# Altium integrated library National Semiconductor OtherParts.IntLib: 205 symbols (part 6 of 7)
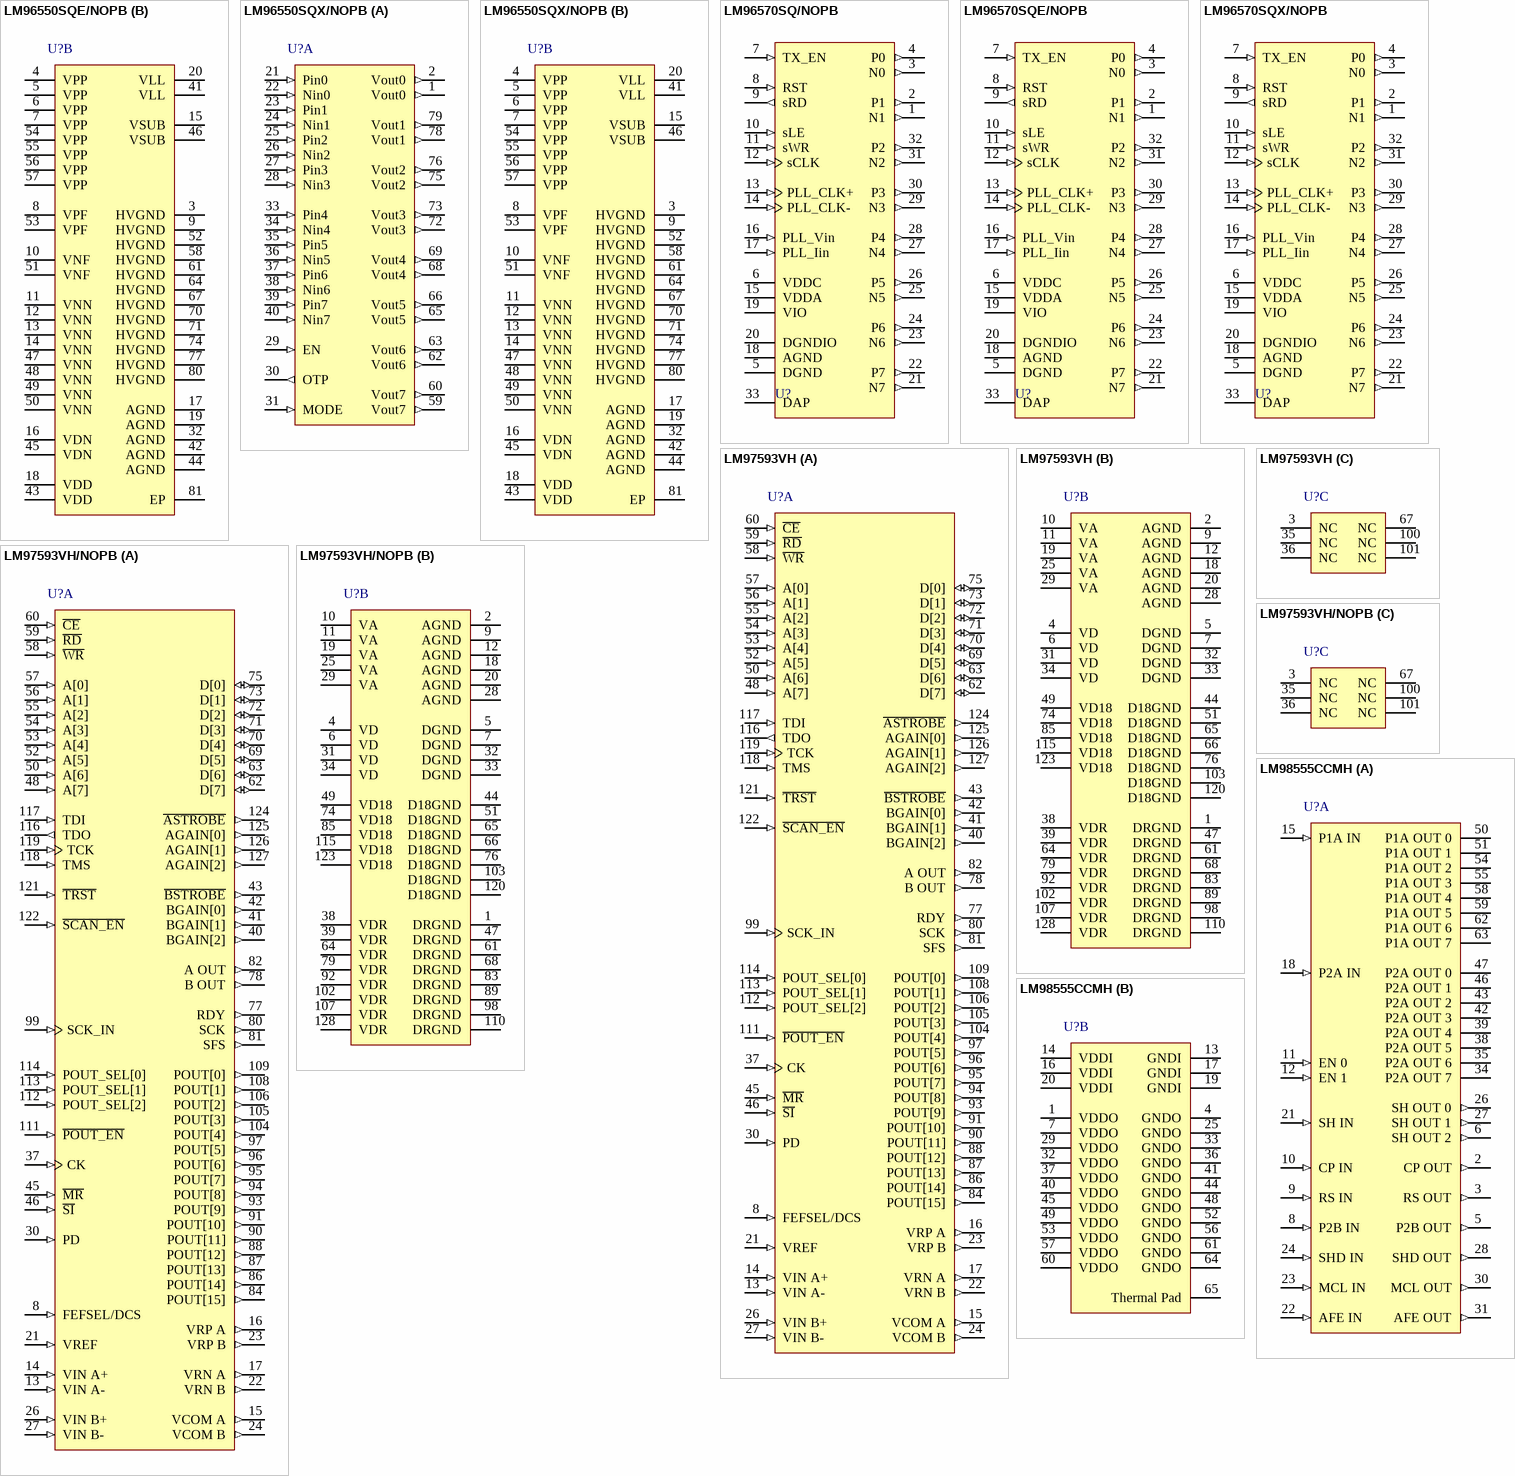
[diagram p17: symbols LM96550SQE/NOPB to LM98555CCMH]

## LM98555CCMH
designator U?
CCD Driver, 64-pin TSSOP-EP; PartNumber: LM98555CCMH; Manufacturer: National Semiconductor; PackageTopMarking: THHD*XTT; PowerWise: N; CompType: OtherParts; High-Reliability: Y; DatasheetVersion: Aug-2007; PackageVersion: revA, Feb-2004; PackageReference: MXD64A; PackageDescription: Molded TSSOP, JEDEC, 17 x 6.1 x 0.9mm Body, 64 Lead, 0.5mm Pitch, Exposed Pad; RoHS: Y; PinCount: 65; Code_JEDEC: MO-153-EFT; ComponentLink1Description: Manufacturer URL; ComponentLink1URL: http://www.national.com/; ComponentLink2Description: LM98555 Datasheet; ComponentLink2URL: http://www.national.com/ds/LM/LM98555.pdf; ComponentLink3Description: LM98555 Web Page; ComponentLink3URL: http://www.national.com/pf/LM/LM98555.html; ComponentLink4Description: MXD64A Package Page; ComponentLink4URL: http://www.national.com/packaging/folders/mxd64a.html
footprint MXD64A_N (TSSOP, 64-Leads, Body 17x6.1mm, Pitch 0.5mm, Exposed Pad, IPC Medium Density)
footprint MXD64A_L (TSSOP, 64-Leads, Body 17x6.1mm, Pitch 0.5mm, Exposed Pad, IPC High Density)
footprint MXD64A_M (TSSOP, 64-Leads, Body 17x6.1mm, Pitch 0.5mm, Exposed Pad, IPC Low Density)
part A pins: 2 CP OUT (out), 3 RS OUT (out), 5 P2B OUT (out), 6 SH OUT 2 (out), 8 P2B IN (in), 9 RS IN (in), 10 CP IN (in), 11 EN 0 (in), 12 EN 1 (in), 15 P1A IN (in), 18 P2A IN (in), 21 SH IN (in), 22 AFE IN (in), 23 MCL IN (in), 24 SHD IN (in), 26 SH OUT 0 (out), 27 SH OUT 1 (out), 28 SHD OUT (out), 30 MCL OUT (out), 31 AFE OUT (out), 34 P2A OUT 7 (hiz), 35 P2A OUT 6 (hiz), 38 P2A OUT 5 (hiz), 39 P2A OUT 4 (hiz), 42 P2A OUT 3 (hiz), 43 P2A OUT 2 (hiz), 46 P2A OUT 1 (hiz), 47 P2A OUT 0 (hiz), 50 P1A OUT 0 (hiz), 51 P1A OUT 1 (hiz), 54 P1A OUT 2 (hiz), 55 P1A OUT 3 (hiz), 58 P1A OUT 4 (hiz), 59 P1A OUT 5 (hiz), 62 P1A OUT 6 (hiz), 63 P1A OUT 7 (hiz)
part B pins: 1 VDDO (power), 4 GNDO (power), 7 VDDO (power), 13 GNDI (power), 14 VDDI (power), 16 VDDI (power), 17 GNDI (power), 19 GNDI (power), 20 VDDI (power), 25 GNDO (power), 29 VDDO (power), 32 VDDO (power), 33 GNDO (power), 36 GNDO (power), 37 VDDO (power), 40 VDDO (power), 41 GNDO (power), 44 GNDO (power), 45 VDDO (power), 48 GNDO (power), 49 VDDO (power), 52 GNDO (power), 53 VDDO (power), 56 GNDO (power), 57 VDDO (power), 60 VDDO (power), 61 GNDO (power), 64 GNDO (power), 65 Thermal Pad (power)

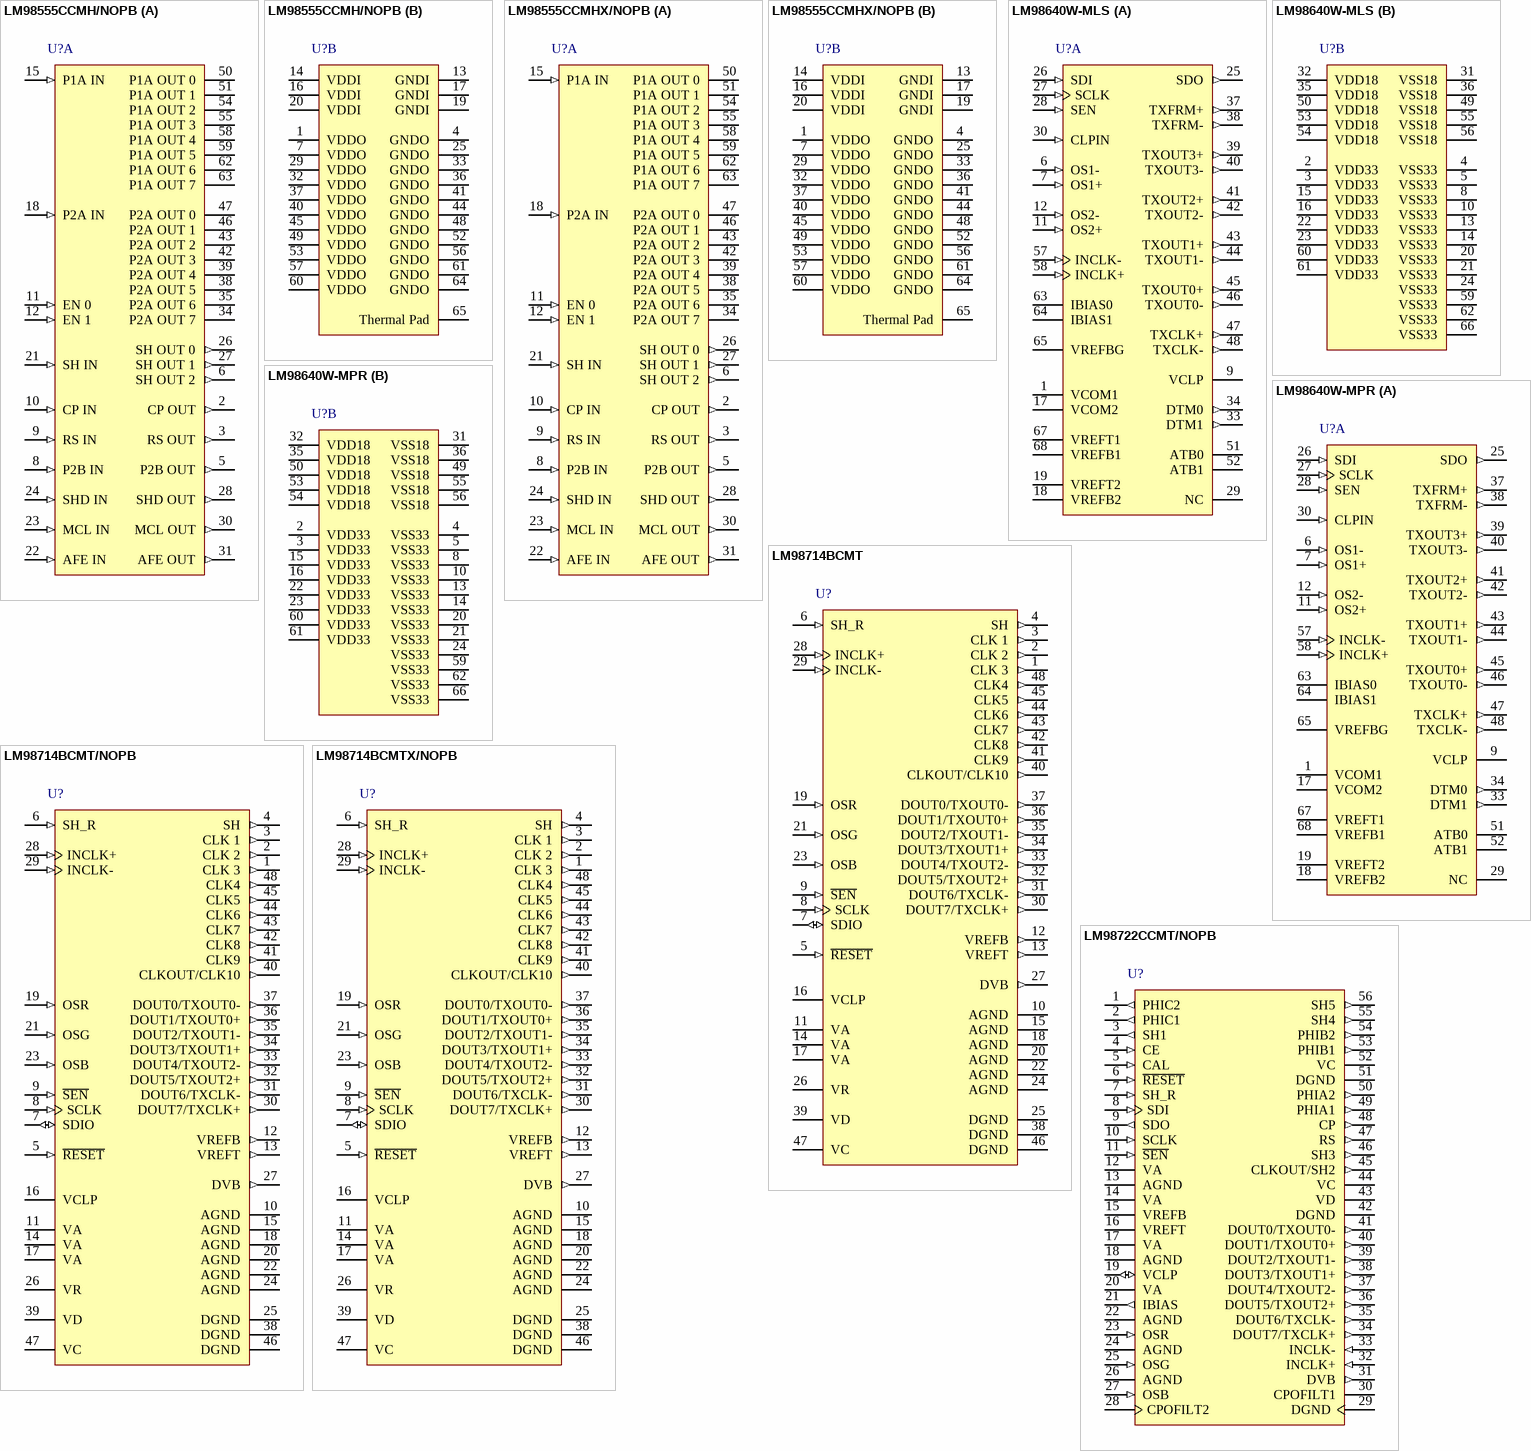
[diagram p10: symbols LM98555CCMH/NOPB to LM98722CCMT/NOPB]

## LM98555CCMH/NOPB
designator U?
CCD Driver, 64-pin TSSOP-EP, Pb-Free; PartNumber: LM98555CCMH/NOPB; Manufacturer: National Semiconductor; PackageTopMarking: NSUZXYTTE#*LM98555*CCMH; PowerWise: N; CompType: OtherParts; High-Reliability: Y; DatasheetVersion: Aug-2007; PackageVersion: revA, Feb-2004; PackageReference: MXD64A; PackageDescription: Molded TSSOP, JEDEC, 17 x 6.1 x 0.9mm Body, 64 Lead, 0.5mm Pitch, Exposed Pad; RoHS: Y; PinCount: 64; Code_JEDEC: MO-153-EFT; ComponentLink1Description: Manufacturer URL; ComponentLink1URL: http://www.national.com/; ComponentLink2Description: LM98555 Datasheet; ComponentLink2URL: http://www.national.com/ds/LM/LM98555.pdf; ComponentLink3Description: LM98555 Web Page; ComponentLink3URL: http://www.national.com/pf/LM/LM98555.html; ComponentLink4Description: MXD64A Package Page; ComponentLink4URL: http://www.national.com/packaging/folders/mxd64a.html
footprint MXD64A_N (TSSOP, 64-Leads, Body 17x6.1mm, Pitch 0.5mm, Exposed Pad, IPC Medium Density)
footprint MXD64A_L (TSSOP, 64-Leads, Body 17x6.1mm, Pitch 0.5mm, Exposed Pad, IPC High Density)
footprint MXD64A_M (TSSOP, 64-Leads, Body 17x6.1mm, Pitch 0.5mm, Exposed Pad, IPC Low Density)
part A pins: 2 CP OUT (out), 3 RS OUT (out), 5 P2B OUT (out), 6 SH OUT 2 (out), 8 P2B IN (in), 9 RS IN (in), 10 CP IN (in), 11 EN 0 (in), 12 EN 1 (in), 15 P1A IN (in), 18 P2A IN (in), 21 SH IN (in), 22 AFE IN (in), 23 MCL IN (in), 24 SHD IN (in), 26 SH OUT 0 (out), 27 SH OUT 1 (out), 28 SHD OUT (out), 30 MCL OUT (out), 31 AFE OUT (out), 34 P2A OUT 7 (hiz), 35 P2A OUT 6 (hiz), 38 P2A OUT 5 (hiz), 39 P2A OUT 4 (hiz), 42 P2A OUT 3 (hiz), 43 P2A OUT 2 (hiz), 46 P2A OUT 1 (hiz), 47 P2A OUT 0 (hiz), 50 P1A OUT 0 (hiz), 51 P1A OUT 1 (hiz), 54 P1A OUT 2 (hiz), 55 P1A OUT 3 (hiz), 58 P1A OUT 4 (hiz), 59 P1A OUT 5 (hiz), 62 P1A OUT 6 (hiz), 63 P1A OUT 7 (hiz)
part B pins: 1 VDDO (power), 4 GNDO (power), 7 VDDO (power), 13 GNDI (power), 14 VDDI (power), 16 VDDI (power), 17 GNDI (power), 19 GNDI (power), 20 VDDI (power), 25 GNDO (power), 29 VDDO (power), 32 VDDO (power), 33 GNDO (power), 36 GNDO (power), 37 VDDO (power), 40 VDDO (power), 41 GNDO (power), 44 GNDO (power), 45 VDDO (power), 48 GNDO (power), 49 VDDO (power), 52 GNDO (power), 53 VDDO (power), 56 GNDO (power), 57 VDDO (power), 60 VDDO (power), 61 GNDO (power), 64 GNDO (power), 65 Thermal Pad (power)

## LM98555CCMHX/NOPB
designator U?
CCD Driver, 64-pin TSSOP-EP, Pb-Free; PartNumber: LM98555CCMHX/NOPB; Manufacturer: National Semiconductor; PackageTopMarking: NSUZXYTTE#*LM98555*CCMH; PowerWise: N; CompType: OtherParts; High-Reliability: Y; DatasheetVersion: Aug-2007; PackageVersion: revA, Feb-2004; PackageReference: MXD64A; PackageDescription: Molded TSSOP, JEDEC, 17 x 6.1 x 0.9mm Body, 64 Lead, 0.5mm Pitch, Exposed Pad; RoHS: Y; PinCount: 64; Code_JEDEC: MO-153-EFT; ComponentLink1Description: Manufacturer URL; ComponentLink1URL: http://www.national.com/; ComponentLink2Description: LM98555 Datasheet; ComponentLink2URL: http://www.national.com/ds/LM/LM98555.pdf; ComponentLink3Description: LM98555 Web Page; ComponentLink3URL: http://www.national.com/pf/LM/LM98555.html; ComponentLink4Description: MXD64A Package Page; ComponentLink4URL: http://www.national.com/packaging/folders/mxd64a.html
footprint MXD64A_N (TSSOP, 64-Leads, Body 17x6.1mm, Pitch 0.5mm, Exposed Pad, IPC Medium Density)
footprint MXD64A_L (TSSOP, 64-Leads, Body 17x6.1mm, Pitch 0.5mm, Exposed Pad, IPC High Density)
footprint MXD64A_M (TSSOP, 64-Leads, Body 17x6.1mm, Pitch 0.5mm, Exposed Pad, IPC Low Density)
part A pins: 2 CP OUT (out), 3 RS OUT (out), 5 P2B OUT (out), 6 SH OUT 2 (out), 8 P2B IN (in), 9 RS IN (in), 10 CP IN (in), 11 EN 0 (in), 12 EN 1 (in), 15 P1A IN (in), 18 P2A IN (in), 21 SH IN (in), 22 AFE IN (in), 23 MCL IN (in), 24 SHD IN (in), 26 SH OUT 0 (out), 27 SH OUT 1 (out), 28 SHD OUT (out), 30 MCL OUT (out), 31 AFE OUT (out), 34 P2A OUT 7 (hiz), 35 P2A OUT 6 (hiz), 38 P2A OUT 5 (hiz), 39 P2A OUT 4 (hiz), 42 P2A OUT 3 (hiz), 43 P2A OUT 2 (hiz), 46 P2A OUT 1 (hiz), 47 P2A OUT 0 (hiz), 50 P1A OUT 0 (hiz), 51 P1A OUT 1 (hiz), 54 P1A OUT 2 (hiz), 55 P1A OUT 3 (hiz), 58 P1A OUT 4 (hiz), 59 P1A OUT 5 (hiz), 62 P1A OUT 6 (hiz), 63 P1A OUT 7 (hiz)
part B pins: 1 VDDO (power), 4 GNDO (power), 7 VDDO (power), 13 GNDI (power), 14 VDDI (power), 16 VDDI (power), 17 GNDI (power), 19 GNDI (power), 20 VDDI (power), 25 GNDO (power), 29 VDDO (power), 32 VDDO (power), 33 GNDO (power), 36 GNDO (power), 37 VDDO (power), 40 VDDO (power), 41 GNDO (power), 44 GNDO (power), 45 VDDO (power), 48 GNDO (power), 49 VDDO (power), 52 GNDO (power), 53 VDDO (power), 56 GNDO (power), 57 VDDO (power), 60 VDDO (power), 61 GNDO (power), 64 GNDO (power), 65 Thermal Pad (power)

## LM98640W-MLS
designator U?
Dual Channel, 14-Bit, 40 MSPS Analog Front End with LVDS Output, 68 pin CQFP; PartNumber: LM98640W-MLS; Manufacturer: National Semiconductor; PackageTopMarking: NSZSSXXYYA*LM98640W-MLS; PowerWise: N; CompType: OtherParts; High-Reliability: Y; DatasheetVersion: May-2010; PackageVersion: revB, Jul-2009; PackageReference: EL68D; PackageDescription: 68-Lead Ceramic Quad Flat Pack, 24.13 x 24.13 x 3.10 mm Body, 1.27 mm Pitch (CQFP); RoHS: N; PinCount: 68; ComponentLink1Description: Manufacturer URL; ComponentLink1URL: http://www.national.com/; ComponentLink2Description: LM98640QML Datasheet; ComponentLink2URL: http://www.national.com/ds/LM/LM98640QML.pdf; ComponentLink3Description: LM98640QML Web Page; ComponentLink3URL: http://www.national.com/pf/LM/LM98640QML.html; ComponentLink4Description: EL68D Package Page; ComponentLink4URL: http://www.national.com/packaging/folders/el68d.html
footprint EL68D_N (CQFP, 68-Leads, Body 24.1x24.1mm; Pitch 1.27mm, Gullwing Leadform, IPC Medium Density)
footprint EL68D_L (CQFP, 68-Leads, Body 24.1x24.1mm; Pitch 1.27mm, Gullwing Leadform, IPC High Density)
footprint EL68D_M (CQFP, 68-Leads, Body 24.1x24.1mm; Pitch 1.27mm, Gullwing Leadform, IPC Low Density)
part A pins: 1 VCOM1, 6 OS1- (in), 7 OS1+ (in), 9 VCLP, 11 OS2+ (in), 12 OS2- (in), 17 VCOM2, 18 VREFB2, 19 VREFT2, 25 SDO (out), 26 SDI (in), 27 SCLK (in), 28 SEN (in), 29 NC, 30 CLPIN (in), 33 DTM1 (out), 34 DTM0 (out), 37 TXFRM+ (out), 38 TXFRM- (out), 39 TXOUT3+ (out), 40 TXOUT3- (out), 41 TXOUT2+ (out), 42 TXOUT2- (out), 43 TXOUT1+ (out), 44 TXOUT1- (out), 45 TXOUT0+ (out), 46 TXOUT0- (out), 47 TXCLK+ (out), 48 TXCLK- (out), 51 ATB0, 52 ATB1, 57 INCLK- (in), 58 INCLK+ (in), 63 IBIAS0, 64 IBIAS1, 65 VREFBG, 67 VREFT1, 68 VREFB1
part B pins: 2 VDD33 (power), 3 VDD33 (power), 4 VSS33 (power), 5 VSS33 (power), 8 VSS33 (power), 10 VSS33 (power), 13 VSS33 (power), 14 VSS33 (power), 15 VDD33 (power), 16 VDD33 (power), 20 VSS33 (power), 21 VSS33 (power), 22 VDD33 (power), 23 VDD33 (power), 24 VSS33 (power), 31 VSS18 (power), 32 VDD18 (power), 35 VDD18 (power), 36 VSS18 (power), 49 VSS18 (power), 50 VDD18 (power), 53 VDD18 (power), 54 VDD18 (power), 55 VSS18 (power), 56 VSS18 (power), 59 VSS33 (power), 60 VDD33 (power), 61 VDD33 (power), 62 VSS33 (power), 66 VSS33 (power)

## LM98640W-MPR
designator U?
Dual Channel, 14-Bit, 40 MSPS Analog Front End with LVDS Output, 68 pin CQFP; PartNumber: LM98640W-MPR; Manufacturer: National Semiconductor; PackageTopMarking: NSZSSXXYYA*LM98640W*-MPR ES; PowerWise: N; CompType: OtherParts; High-Reliability: Y; DatasheetVersion: May-2010; PackageVersion: revB, Jul-2009; PackageReference: EL68D; PackageDescription: 68-Lead Ceramic Quad Flat Pack, 24.13 x 24.13 x 3.10 mm Body, 1.27 mm Pitch (CQFP); RoHS: N; PinCount: 68; ComponentLink1Description: Manufacturer URL; ComponentLink1URL: http://www.national.com/; ComponentLink2Description: LM98640QML Datasheet; ComponentLink2URL: http://www.national.com/ds/LM/LM98640QML.pdf; ComponentLink3Description: LM98640QML Web Page; ComponentLink3URL: http://www.national.com/pf/LM/LM98640QML.html; ComponentLink4Description: EL68D Package Page; ComponentLink4URL: http://www.national.com/packaging/folders/el68d.html
footprint EL68D_N (CQFP, 68-Leads, Body 24.1x24.1mm; Pitch 1.27mm, Gullwing Leadform, IPC Medium Density)
footprint EL68D_L (CQFP, 68-Leads, Body 24.1x24.1mm; Pitch 1.27mm, Gullwing Leadform, IPC High Density)
footprint EL68D_M (CQFP, 68-Leads, Body 24.1x24.1mm; Pitch 1.27mm, Gullwing Leadform, IPC Low Density)
part A pins: 1 VCOM1, 6 OS1- (in), 7 OS1+ (in), 9 VCLP, 11 OS2+ (in), 12 OS2- (in), 17 VCOM2, 18 VREFB2, 19 VREFT2, 25 SDO (out), 26 SDI (in), 27 SCLK (in), 28 SEN (in), 29 NC, 30 CLPIN (in), 33 DTM1 (out), 34 DTM0 (out), 37 TXFRM+ (out), 38 TXFRM- (out), 39 TXOUT3+ (out), 40 TXOUT3- (out), 41 TXOUT2+ (out), 42 TXOUT2- (out), 43 TXOUT1+ (out), 44 TXOUT1- (out), 45 TXOUT0+ (out), 46 TXOUT0- (out), 47 TXCLK+ (out), 48 TXCLK- (out), 51 ATB0, 52 ATB1, 57 INCLK- (in), 58 INCLK+ (in), 63 IBIAS0, 64 IBIAS1, 65 VREFBG, 67 VREFT1, 68 VREFB1
part B pins: 2 VDD33 (power), 3 VDD33 (power), 4 VSS33 (power), 5 VSS33 (power), 8 VSS33 (power), 10 VSS33 (power), 13 VSS33 (power), 14 VSS33 (power), 15 VDD33 (power), 16 VDD33 (power), 20 VSS33 (power), 21 VSS33 (power), 22 VDD33 (power), 23 VDD33 (power), 24 VSS33 (power), 31 VSS18 (power), 32 VDD18 (power), 35 VDD18 (power), 36 VSS18 (power), 49 VSS18 (power), 50 VDD18 (power), 53 VDD18 (power), 54 VDD18 (power), 55 VSS18 (power), 56 VSS18 (power), 59 VSS33 (power), 60 VDD33 (power), 61 VDD33 (power), 62 VSS33 (power), 66 VSS33 (power)

## LM98714BCMT
designator U?
Three Channel, 16-Bit, 45 MSPS Digital Copier Analog Front End with Integrated CCD/CIS Sensor Timing Generator and LVDS Output, 48-pin TSSOP; PartNumber: LM98714BCMT; Manufacturer: National Semiconductor; PackageTopMarking: THHD*XTT; PowerWise: N; CompType: OtherParts; High-Reliability: Y; DatasheetVersion: Oct-2006; PackageVersion: revE, Apr-2003; PackageReference: MTD48; PackageDescription: Molded TSSOP, Jedec, 12.5 x 6.1 x 0.9mm Body, 48 Lead, 0.50mm Pitch; RoHS: Y; PinCount: 48; Code_JEDEC: MO-153-ED; ComponentLink1Description: Manufacturer URL; ComponentLink1URL: http://www.national.com/; ComponentLink2Description: LM98714 Datasheet; ComponentLink2URL: http://www.national.com/ds/LM/LM98714.pdf; ComponentLink3Description: LM98714 Web Page; ComponentLink3URL: http://www.national.com/pf/LM/LM98714.html; ComponentLink4Description: MTD48 Package Page; ComponentLink4URL: http://www.national.com/packaging/folders/mtd48.html
footprint MTD48_N (TSSOP, 48-Leads, Body 12.5x6.1mm, Pitch 0.5mm, IPC Medium Density)
footprint MTD48_L (TSSOP, 48-Leads, Body 12.5x6.1mm, Pitch 0.5mm, IPC High Density)
footprint MTD48_M (TSSOP, 48-Leads, Body 12.5x6.1mm, Pitch 0.5mm, IPC Low Density)
pins: 1 CLK 3 (out), 2 CLK 2 (out), 3 CLK 1 (out), 4 SH (out), 5 ~{RESET} (in), 6 SH_R (in), 7 SDIO (io), 8 SCLK (in), 9 ~{SEN} (in), 10 AGND (power), 11 VA (power), 12 VREFB (out), 13 VREFT (out), 14 VA (power), 15 AGND (power), 16 VCLP (power), 17 VA (power), 18 AGND (power), 19 OSR (in), 20 AGND (power), 21 OSG (in), 22 AGND (power), 23 OSB (in), 24 AGND (power), 25 DGND (power), 26 VR (power), 27 DVB (out), 28 INCLK+ (in), 29 INCLK- (in), 30 DOUT7/TXCLK+ (out), 31 DOUT6/TXCLK- (out), 32 DOUT5/TXOUT2+ (out), 33 DOUT4/TXOUT2- (out), 34 DOUT3/TXOUT1+ (out), 35 DOUT2/TXOUT1- (out), 36 DOUT1/TXOUT0+ (out), 37 DOUT0/TXOUT0- (out), 38 DGND (power), 39 VD (power), 40 CLKOUT/CLK10 (out), 41 CLK9 (out), 42 CLK8 (out), 43 CLK7 (out), 44 CLK6 (out), 45 CLK5 (out), 46 DGND (power), 47 VC (power), 48 CLK4 (out)

## LM98714BCMT/NOPB
designator U?
Three Channel, 16-Bit, 45 MSPS Digital Copier Analog Front End with Integrated CCD/CIS Sensor Timing Generator and LVDS Output, 48-pin TSSOP, Pb-Free; PartNumber: LM98714BCMT/NOPB; Manufacturer: National Semiconductor; PackageTopMarking: NSUZXYTTE#*LM98714*BCMT; PowerWise: N; CompType: OtherParts; High-Reliability: Y; DatasheetVersion: Oct-2006; PackageVersion: revE, Apr-2003; PackageReference: MTD48; PackageDescription: Molded TSSOP, Jedec, 12.5 x 6.1 x 0.9mm Body, 48 Lead, 0.50mm Pitch; RoHS: Y; PinCount: 48; Code_JEDEC: MO-153-ED; ComponentLink1Description: Manufacturer URL; ComponentLink1URL: http://www.national.com/; ComponentLink2Description: LM98714 Datasheet; ComponentLink2URL: http://www.national.com/ds/LM/LM98714.pdf; ComponentLink3Description: LM98714 Web Page; ComponentLink3URL: http://www.national.com/pf/LM/LM98714.html; ComponentLink4Description: MTD48 Package Page; ComponentLink4URL: http://www.national.com/packaging/folders/mtd48.html
footprint MTD48_N (TSSOP, 48-Leads, Body 12.5x6.1mm, Pitch 0.5mm, IPC Medium Density)
footprint MTD48_L (TSSOP, 48-Leads, Body 12.5x6.1mm, Pitch 0.5mm, IPC High Density)
footprint MTD48_M (TSSOP, 48-Leads, Body 12.5x6.1mm, Pitch 0.5mm, IPC Low Density)
pins: 1 CLK 3 (out), 2 CLK 2 (out), 3 CLK 1 (out), 4 SH (out), 5 ~{RESET} (in), 6 SH_R (in), 7 SDIO (io), 8 SCLK (in), 9 ~{SEN} (in), 10 AGND (power), 11 VA (power), 12 VREFB (out), 13 VREFT (out), 14 VA (power), 15 AGND (power), 16 VCLP (power), 17 VA (power), 18 AGND (power), 19 OSR (in), 20 AGND (power), 21 OSG (in), 22 AGND (power), 23 OSB (in), 24 AGND (power), 25 DGND (power), 26 VR (power), 27 DVB (out), 28 INCLK+ (in), 29 INCLK- (in), 30 DOUT7/TXCLK+ (out), 31 DOUT6/TXCLK- (out), 32 DOUT5/TXOUT2+ (out), 33 DOUT4/TXOUT2- (out), 34 DOUT3/TXOUT1+ (out), 35 DOUT2/TXOUT1- (out), 36 DOUT1/TXOUT0+ (out), 37 DOUT0/TXOUT0- (out), 38 DGND (power), 39 VD (power), 40 CLKOUT/CLK10 (out), 41 CLK9 (out), 42 CLK8 (out), 43 CLK7 (out), 44 CLK6 (out), 45 CLK5 (out), 46 DGND (power), 47 VC (power), 48 CLK4 (out)

## LM98714BCMTX/NOPB
designator U?
Three Channel, 16-Bit, 45 MSPS Digital Copier Analog Front End with Integrated CCD/CIS Sensor Timing Generator and LVDS Output, 48-pin TSSOP, Pb-Free; PartNumber: LM98714BCMTX/NOPB; Manufacturer: National Semiconductor; PackageTopMarking: NSUZXYTTE#*LM98714*BCMT; PowerWise: N; CompType: OtherParts; High-Reliability: Y; DatasheetVersion: Oct-2006; PackageVersion: revE, Apr-2003; PackageReference: MTD48; PackageDescription: Molded TSSOP, Jedec, 12.5 x 6.1 x 0.9mm Body, 48 Lead, 0.50mm Pitch; RoHS: Y; PinCount: 48; Code_JEDEC: MO-153-ED; ComponentLink1Description: Manufacturer URL; ComponentLink1URL: http://www.national.com/; ComponentLink2Description: LM98714 Datasheet; ComponentLink2URL: http://www.national.com/ds/LM/LM98714.pdf; ComponentLink3Description: LM98714 Web Page; ComponentLink3URL: http://www.national.com/pf/LM/LM98714.html; ComponentLink4Description: MTD48 Package Page; ComponentLink4URL: http://www.national.com/packaging/folders/mtd48.html
footprint MTD48_N (TSSOP, 48-Leads, Body 12.5x6.1mm, Pitch 0.5mm, IPC Medium Density)
footprint MTD48_L (TSSOP, 48-Leads, Body 12.5x6.1mm, Pitch 0.5mm, IPC High Density)
footprint MTD48_M (TSSOP, 48-Leads, Body 12.5x6.1mm, Pitch 0.5mm, IPC Low Density)
pins: 1 CLK 3 (out), 2 CLK 2 (out), 3 CLK 1 (out), 4 SH (out), 5 ~{RESET} (in), 6 SH_R (in), 7 SDIO (io), 8 SCLK (in), 9 ~{SEN} (in), 10 AGND (power), 11 VA (power), 12 VREFB (out), 13 VREFT (out), 14 VA (power), 15 AGND (power), 16 VCLP (power), 17 VA (power), 18 AGND (power), 19 OSR (in), 20 AGND (power), 21 OSG (in), 22 AGND (power), 23 OSB (in), 24 AGND (power), 25 DGND (power), 26 VR (power), 27 DVB (out), 28 INCLK+ (in), 29 INCLK- (in), 30 DOUT7/TXCLK+ (out), 31 DOUT6/TXCLK- (out), 32 DOUT5/TXOUT2+ (out), 33 DOUT4/TXOUT2- (out), 34 DOUT3/TXOUT1+ (out), 35 DOUT2/TXOUT1- (out), 36 DOUT1/TXOUT0+ (out), 37 DOUT0/TXOUT0- (out), 38 DGND (power), 39 VD (power), 40 CLKOUT/CLK10 (out), 41 CLK9 (out), 42 CLK8 (out), 43 CLK7 (out), 44 CLK6 (out), 45 CLK5 (out), 46 DGND (power), 47 VC (power), 48 CLK4 (out)

## LM98722CCMT/NOPB
designator U?
Three Channel, 16-Bit, 45 MSPS Analog Front End with LVDS/CMOS Output and Integrated CCD/CIS Sensor Timing Generator, 56-pin TSSOP, Pb-Free; PartNumber: LM98722CCMT/NOPB; Manufacturer: National Semiconductor; PackageTopMarking: NSUZXYTTE#*LM98722CCMT; PowerWise: N; CompType: OtherParts; High-Reliability: Y; DatasheetVersion: Sep-2009; PackageVersion: revD, Apr-2003; PackageReference: MTD56; PackageDescription: Molded TSSOP, Jedec, 14 x 6.1 x 0.9mm Body, 56 Lead, 0.50mm Pitch; RoHS: Y; PinCount: 56; Code_IPC: TSSOP50P810-56; ComponentLink1Description: Manufacturer URL; ComponentLink1URL: http://www.national.com/; ComponentLink2Description: LM98722 Datasheet; ComponentLink2URL: http://www.national.com/ds/LM/LM98722.pdf; ComponentLink3Description: LM98722 Web Page; ComponentLink3URL: http://www.national.com/pf/LM/LM98722.html; ComponentLink4Description: MTD56 Package Page; ComponentLink4URL: http://www.national.com/packaging/folders/mtd56.html
footprint MTD56_N (TSSOP, 56-Leads, Body 14x6.1mm, Pitch 0.5mm, IPC Medium Density)
footprint MTD56_L (TSSOP, 56-Leads, Body 14x6.1mm, Pitch 0.5mm, IPC High Density)
footprint MTD56_M (TSSOP, 56-Leads, Body 14x6.1mm, Pitch 0.5mm, IPC Low Density)
pins: 1 PHIC2 (out), 2 PHIC1 (out), 3 SH1 (out), 4 CE (in), 5 CAL (in), 6 ~{RESET} (in), 7 SH_R (in), 8 SDI (in), 9 SDO (out), 10 SCLK (in), 11 ~{SEN} (in), 12 VA (power), 13 AGND (power), 14 VA (power), 15 VREFB (power), 16 VREFT (power), 17 VA (power), 18 AGND (power), 19 VCLP (io), 20 VA (power), 21 IBIAS (out), 22 AGND (power), 23 OSR (in), 24 AGND (power), 25 OSG (in), 26 AGND (power), 27 OSB (in), 28 CPOFILT2, 29 DGND (power), 30 CPOFILT1, 31 DVB (out), 32 INCLK+ (in), 33 INCLK- (in), 34 DOUT7/TXCLK+ (out), 35 DOUT6/TXCLK- (out), 36 DOUT5/TXOUT2+ (out), 37 DOUT4/TXOUT2- (out), 38 DOUT3/TXOUT1+ (out), 39 DOUT2/TXOUT1- (out), 40 DOUT1/TXOUT0+ (out), 41 DOUT0/TXOUT0- (out), 42 DGND (power), 43 VD (power), 44 VC (power), 45 CLKOUT/SH2 (out), 46 SH3 (out), 47 RS (out), 48 CP (out), 49 PHIA1 (out), 50 PHIA2 (out), 51 DGND (power), 52 VC (power), 53 PHIB1 (out), 54 PHIB2 (out), 55 SH4 (out), 56 SH5 (out)

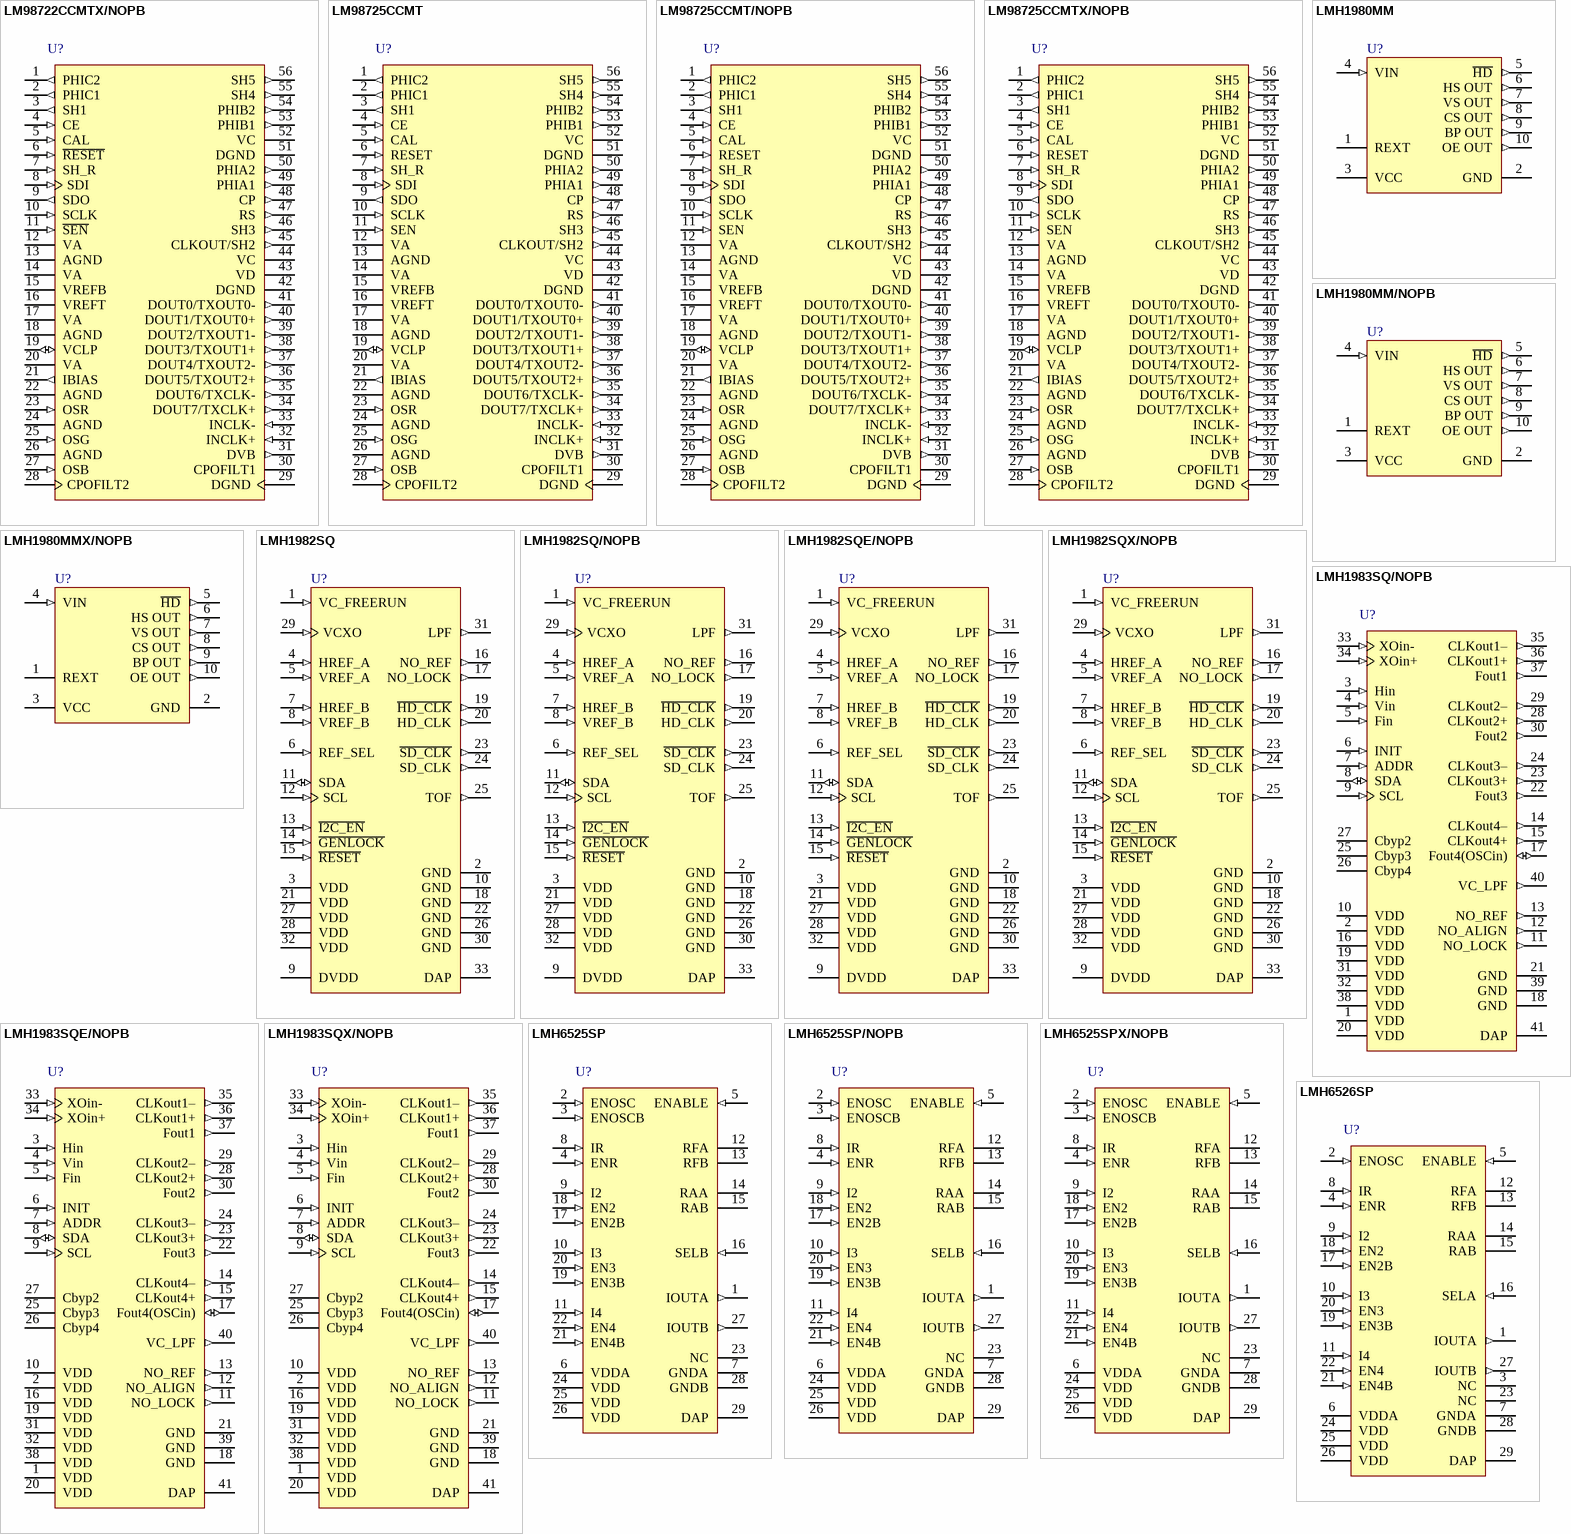
[diagram p11: symbols LM98722CCMTX/NOPB to LMH6526SP]

## LM98722CCMTX/NOPB
designator U?
Three Channel, 16-Bit, 45 MSPS Analog Front End with LVDS/CMOS Output and Integrated CCD/CIS Sensor Timing Generator, 56-pin TSSOP, Pb-Free; PartNumber: LM98722CCMTX/NOPB; Manufacturer: National Semiconductor; PackageTopMarking: NSUZXYTTE#*LM98722CCMT; PowerWise: N; CompType: OtherParts; High-Reliability: Y; DatasheetVersion: Sep-2009; PackageVersion: revD, Apr-2003; PackageReference: MTD56; PackageDescription: Molded TSSOP, Jedec, 14 x 6.1 x 0.9mm Body, 56 Lead, 0.50mm Pitch; RoHS: Y; PinCount: 56; Code_IPC: TSSOP50P810-56; ComponentLink1Description: Manufacturer URL; ComponentLink1URL: http://www.national.com/; ComponentLink2Description: LM98722 Datasheet; ComponentLink2URL: http://www.national.com/ds/LM/LM98722.pdf; ComponentLink3Description: LM98722 Web Page; ComponentLink3URL: http://www.national.com/pf/LM/LM98722.html; ComponentLink4Description: MTD56 Package Page; ComponentLink4URL: http://www.national.com/packaging/folders/mtd56.html
footprint MTD56_N (TSSOP, 56-Leads, Body 14x6.1mm, Pitch 0.5mm, IPC Medium Density)
footprint MTD56_L (TSSOP, 56-Leads, Body 14x6.1mm, Pitch 0.5mm, IPC High Density)
footprint MTD56_M (TSSOP, 56-Leads, Body 14x6.1mm, Pitch 0.5mm, IPC Low Density)
pins: 1 PHIC2 (out), 2 PHIC1 (out), 3 SH1 (out), 4 CE (in), 5 CAL (in), 6 ~{RESET} (in), 7 SH_R (in), 8 SDI (in), 9 SDO (out), 10 SCLK (in), 11 ~{SEN} (in), 12 VA (power), 13 AGND (power), 14 VA (power), 15 VREFB (power), 16 VREFT (power), 17 VA (power), 18 AGND (power), 19 VCLP (io), 20 VA (power), 21 IBIAS (out), 22 AGND (power), 23 OSR (in), 24 AGND (power), 25 OSG (in), 26 AGND (power), 27 OSB (in), 28 CPOFILT2, 29 DGND (power), 30 CPOFILT1, 31 DVB (out), 32 INCLK+ (in), 33 INCLK- (in), 34 DOUT7/TXCLK+ (out), 35 DOUT6/TXCLK- (out), 36 DOUT5/TXOUT2+ (out), 37 DOUT4/TXOUT2- (out), 38 DOUT3/TXOUT1+ (out), 39 DOUT2/TXOUT1- (out), 40 DOUT1/TXOUT0+ (out), 41 DOUT0/TXOUT0- (out), 42 DGND (power), 43 VD (power), 44 VC (power), 45 CLKOUT/SH2 (out), 46 SH3 (out), 47 RS (out), 48 CP (out), 49 PHIA1 (out), 50 PHIA2 (out), 51 DGND (power), 52 VC (power), 53 PHIB1 (out), 54 PHIB2 (out), 55 SH4 (out), 56 SH5 (out)

## LM98725CCMT
designator U?
Three Channel, 16-Bit, 81 MSPS Analog Front End with LVDS/CMOS Output and Integrated CCD/CIS Sensor Timing Generator, 56-pin TSSOP; PartNumber: LM98725CCMT; Manufacturer: National Semiconductor; PackageTopMarking: NSUZXYTT*LM98725CCMT; PowerWise: N; CompType: OtherParts; High-Reliability: Y; DatasheetVersion: Sep-2009; PackageVersion: revD, Apr-2003; PackageReference: MTD56; PackageDescription: Molded TSSOP, Jedec, 14 x 6.1 x 0.9mm Body, 56 Lead, 0.50mm Pitch; RoHS: Y; PinCount: 56; Code_IPC: TSSOP50P810-56; ComponentLink1Description: Manufacturer URL; ComponentLink1URL: http://www.national.com/; ComponentLink2Description: LM98725 Datasheet; ComponentLink2URL: http://www.national.com/ds/LM/LM98725.pdf; ComponentLink3Description: LM98725 Web Page; ComponentLink3URL: http://www.national.com/pf/LM/LM98725.html; ComponentLink4Description: MTD56 Package Page; ComponentLink4URL: http://www.national.com/packaging/folders/mtd56.html
footprint MTD56_N (TSSOP, 56-Leads, Body 14x6.1mm, Pitch 0.5mm, IPC Medium Density)
footprint MTD56_L (TSSOP, 56-Leads, Body 14x6.1mm, Pitch 0.5mm, IPC High Density)
footprint MTD56_M (TSSOP, 56-Leads, Body 14x6.1mm, Pitch 0.5mm, IPC Low Density)
pins: 1 PHIC2 (out), 2 PHIC1 (out), 3 SH1 (out), 4 CE (in), 5 CAL (in), 6 RESET (in), 7 SH_R (in), 8 SDI (in), 9 SDO (out), 10 SCLK (in), 11 SEN (in), 12 VA (power), 13 AGND (power), 14 VA (power), 15 VREFB (power), 16 VREFT (power), 17 VA (power), 18 AGND (power), 19 VCLP (io), 20 VA (power), 21 IBIAS (out), 22 AGND (power), 23 OSR (in), 24 AGND (power), 25 OSG (in), 26 AGND (power), 27 OSB (in), 28 CPOFILT2, 29 DGND (power), 30 CPOFILT1, 31 DVB (out), 32 INCLK+ (in), 33 INCLK- (in), 34 DOUT7/TXCLK+ (out), 35 DOUT6/TXCLK- (out), 36 DOUT5/TXOUT2+ (out), 37 DOUT4/TXOUT2- (out), 38 DOUT3/TXOUT1+ (out), 39 DOUT2/TXOUT1- (out), 40 DOUT1/TXOUT0+ (out), 41 DOUT0/TXOUT0- (out), 42 DGND (power), 43 VD (power), 44 VC (power), 45 CLKOUT/SH2 (out), 46 SH3 (out), 47 RS (out), 48 CP (out), 49 PHIA1 (out), 50 PHIA2 (out), 51 DGND (power), 52 VC (power), 53 PHIB1 (out), 54 PHIB2 (out), 55 SH4 (out), 56 SH5 (out)

## LM98725CCMT/NOPB
designator U?
Three Channel, 16-Bit, 81 MSPS Analog Front End with LVDS/CMOS Output and Integrated CCD/CIS Sensor Timing Generator, 56-pin TSSOP, Pb-Free; PartNumber: LM98725CCMT/NOPB; Manufacturer: National Semiconductor; PackageTopMarking: NSUZXYTTE#*LM98725CCMT; PowerWise: N; CompType: OtherParts; High-Reliability: Y; DatasheetVersion: Sep-2009; PackageVersion: revD, Apr-2003; PackageReference: MTD56; PackageDescription: Molded TSSOP, Jedec, 14 x 6.1 x 0.9mm Body, 56 Lead, 0.50mm Pitch; RoHS: Y; PinCount: 56; Code_IPC: TSSOP50P810-56; ComponentLink1Description: Manufacturer URL; ComponentLink1URL: http://www.national.com/; ComponentLink2Description: LM98725 Datasheet; ComponentLink2URL: http://www.national.com/ds/LM/LM98725.pdf; ComponentLink3Description: LM98725 Web Page; ComponentLink3URL: http://www.national.com/pf/LM/LM98725.html; ComponentLink4Description: MTD56 Package Page; ComponentLink4URL: http://www.national.com/packaging/folders/mtd56.html
footprint MTD56_N (TSSOP, 56-Leads, Body 14x6.1mm, Pitch 0.5mm, IPC Medium Density)
footprint MTD56_L (TSSOP, 56-Leads, Body 14x6.1mm, Pitch 0.5mm, IPC High Density)
footprint MTD56_M (TSSOP, 56-Leads, Body 14x6.1mm, Pitch 0.5mm, IPC Low Density)
pins: 1 PHIC2 (out), 2 PHIC1 (out), 3 SH1 (out), 4 CE (in), 5 CAL (in), 6 RESET (in), 7 SH_R (in), 8 SDI (in), 9 SDO (out), 10 SCLK (in), 11 SEN (in), 12 VA (power), 13 AGND (power), 14 VA (power), 15 VREFB (power), 16 VREFT (power), 17 VA (power), 18 AGND (power), 19 VCLP (io), 20 VA (power), 21 IBIAS (out), 22 AGND (power), 23 OSR (in), 24 AGND (power), 25 OSG (in), 26 AGND (power), 27 OSB (in), 28 CPOFILT2, 29 DGND (power), 30 CPOFILT1, 31 DVB (out), 32 INCLK+ (in), 33 INCLK- (in), 34 DOUT7/TXCLK+ (out), 35 DOUT6/TXCLK- (out), 36 DOUT5/TXOUT2+ (out), 37 DOUT4/TXOUT2- (out), 38 DOUT3/TXOUT1+ (out), 39 DOUT2/TXOUT1- (out), 40 DOUT1/TXOUT0+ (out), 41 DOUT0/TXOUT0- (out), 42 DGND (power), 43 VD (power), 44 VC (power), 45 CLKOUT/SH2 (out), 46 SH3 (out), 47 RS (out), 48 CP (out), 49 PHIA1 (out), 50 PHIA2 (out), 51 DGND (power), 52 VC (power), 53 PHIB1 (out), 54 PHIB2 (out), 55 SH4 (out), 56 SH5 (out)

## LM98725CCMTX/NOPB
designator U?
Three Channel, 16-Bit, 81 MSPS Analog Front End with LVDS/CMOS Output and Integrated CCD/CIS Sensor Timing Generator, 56-pin TSSOP, Pb-Free; PartNumber: LM98725CCMTX/NOPB; Manufacturer: National Semiconductor; PackageTopMarking: NSUZXYTTE#*LM98725CCMT; PowerWise: N; CompType: OtherParts; High-Reliability: Y; DatasheetVersion: Sep-2009; PackageVersion: revD, Apr-2003; PackageReference: MTD56; PackageDescription: Molded TSSOP, Jedec, 14 x 6.1 x 0.9mm Body, 56 Lead, 0.50mm Pitch; RoHS: Y; PinCount: 56; Code_IPC: TSSOP50P810-56; ComponentLink1Description: Manufacturer URL; ComponentLink1URL: http://www.national.com/; ComponentLink2Description: LM98725 Datasheet; ComponentLink2URL: http://www.national.com/ds/LM/LM98725.pdf; ComponentLink3Description: LM98725 Web Page; ComponentLink3URL: http://www.national.com/pf/LM/LM98725.html; ComponentLink4Description: MTD56 Package Page; ComponentLink4URL: http://www.national.com/packaging/folders/mtd56.html
footprint MTD56_N (TSSOP, 56-Leads, Body 14x6.1mm, Pitch 0.5mm, IPC Medium Density)
footprint MTD56_L (TSSOP, 56-Leads, Body 14x6.1mm, Pitch 0.5mm, IPC High Density)
footprint MTD56_M (TSSOP, 56-Leads, Body 14x6.1mm, Pitch 0.5mm, IPC Low Density)
pins: 1 PHIC2 (out), 2 PHIC1 (out), 3 SH1 (out), 4 CE (in), 5 CAL (in), 6 RESET (in), 7 SH_R (in), 8 SDI (in), 9 SDO (out), 10 SCLK (in), 11 SEN (in), 12 VA (power), 13 AGND (power), 14 VA (power), 15 VREFB (power), 16 VREFT (power), 17 VA (power), 18 AGND (power), 19 VCLP (io), 20 VA (power), 21 IBIAS (out), 22 AGND (power), 23 OSR (in), 24 AGND (power), 25 OSG (in), 26 AGND (power), 27 OSB (in), 28 CPOFILT2, 29 DGND (power), 30 CPOFILT1, 31 DVB (out), 32 INCLK+ (in), 33 INCLK- (in), 34 DOUT7/TXCLK+ (out), 35 DOUT6/TXCLK- (out), 36 DOUT5/TXOUT2+ (out), 37 DOUT4/TXOUT2- (out), 38 DOUT3/TXOUT1+ (out), 39 DOUT2/TXOUT1- (out), 40 DOUT1/TXOUT0+ (out), 41 DOUT0/TXOUT0- (out), 42 DGND (power), 43 VD (power), 44 VC (power), 45 CLKOUT/SH2 (out), 46 SH3 (out), 47 RS (out), 48 CP (out), 49 PHIA1 (out), 50 PHIA2 (out), 51 DGND (power), 52 VC (power), 53 PHIB1 (out), 54 PHIB2 (out), 55 SH4 (out), 56 SH5 (out)

## LMH1980MM
designator U?
Auto-Detecting SD/HD/PC Video Sync Separator, 10-pin MSOP; PartNumber: LMH1980MM; Manufacturer: National Semiconductor; PackageTopMarking: ZXTT*AL4A; PowerWise: N; CompType: OtherParts; High-Reliability: Y; DatasheetVersion: Jul-2007; PackageVersion: revB, Jul-2003; PackageReference: MUB10A; PackageDescription: Mini-SO, Molded, .118 x .118 x .034in Body, 10 Lead, .0197in Pitch; RoHS: Y; Pin Count: 10; Code_JEDEC: MO-187-BA; ComponentLink1Description: Manufacturer URL; ComponentLink1URL: http://www.national.com/; ComponentLink2Description: LMH1980 Datasheet; ComponentLink2URL: http://www.national.com/ds/LM/LMH1980.pdf; ComponentLink3Description: LMH1980 Web Page; ComponentLink3URL: http://www.national.com/pf/LM/LMH1980.html; ComponentLink4Description: MUB10A Package Page; ComponentLink4URL: http://www.national.com/packaging/folders/mub10a.html
footprint MUB10A_N (TSSOP, 10-Leads, Body 3x3mm, Pitch 0.5mm, IPC Medium Density)
footprint MUB10A_L (TSSOP, 10-Leads, Body 3x3mm, Pitch 0.5mm, IPC High Density)
footprint MUB10A_M (TSSOP, 10-Leads, Body 3x3mm, Pitch 0.5mm, IPC Low Density)
pins: 1 REXT, 2 GND (power), 3 VCC (power), 4 VIN (in), 5 ~{HD} (out), 6 HS OUT (out), 7 VS OUT (out), 8 CS OUT (out), 9 BP OUT (out), 10 OE OUT (out)

## LMH1980MM/NOPB
designator U?
Auto-Detecting SD/HD/PC Video Sync Separator, 10-pin Mini SOIC, Pb-Free; PartNumber: LMH1980MM/NOPB; Manufacturer: National Semiconductor; PackageTopMarking: ZXTT*AL4A; PowerWise: N; CompType: OtherParts; High-Reliability: Y; DatasheetVersion: Jul-2007; PackageVersion: revB, Jul-2003; PackageReference: MUB10A; PackageDescription: Mini-SO, Molded, .118 x .118 x .034in Body, 10 Lead, .0197in Pitch; RoHS: Y; PinCount: 10; Code_JEDEC: MO-187-BA; ComponentLink1Description: Manufacturer URL; ComponentLink1URL: http://www.national.com/; ComponentLink2Description: LMH1980 Datasheet; ComponentLink2URL: http://www.national.com/ds/LM/LMH1980.pdf; ComponentLink3Description: LMH1980 Web Page; ComponentLink3URL: http://www.national.com/pf/LM/LMH1980.html; ComponentLink4Description: MUB10A Package Page; ComponentLink4URL: http://www.national.com/packaging/folders/mub10a.html
footprint MUB10A_N (TSSOP, 10-Leads, Body 3x3mm, Pitch 0.5mm, IPC Medium Density)
footprint MUB10A_L (TSSOP, 10-Leads, Body 3x3mm, Pitch 0.5mm, IPC High Density)
footprint MUB10A_M (TSSOP, 10-Leads, Body 3x3mm, Pitch 0.5mm, IPC Low Density)
pins: 1 REXT, 2 GND (power), 3 VCC (power), 4 VIN (in), 5 ~{HD} (out), 6 HS OUT (out), 7 VS OUT (out), 8 CS OUT (out), 9 BP OUT (out), 10 OE OUT (out)

## LMH1980MMX/NOPB
designator U?
Auto-Detecting SD/HD/PC Video Sync Separator, 10-pin Mini SOIC, Pb-Free; PartNumber: LMH1980MMX/NOPB; Manufacturer: National Semiconductor; PackageTopMarking: ZXTT*AL4A; PowerWise: N; CompType: OtherParts; High-Reliability: Y; DatasheetVersion: Jul-2007; PackageVersion: revB, Jul-2003; PackageReference: MUB10A; PackageDescription: Mini-SO, Molded, .118 x .118 x .034in Body, 10 Lead, .0197in Pitch; RoHS: Y; PinCount: 10; Code_JEDEC: MO-187-BA; ComponentLink1Description: Manufacturer URL; ComponentLink1URL: http://www.national.com/; ComponentLink2Description: LMH1980 Datasheet; ComponentLink2URL: http://www.national.com/ds/LM/LMH1980.pdf; ComponentLink3Description: LMH1980 Web Page; ComponentLink3URL: http://www.national.com/pf/LM/LMH1980.html; ComponentLink4Description: MUB10A Package Page; ComponentLink4URL: http://www.national.com/packaging/folders/mub10a.html
footprint MUB10A_N (TSSOP, 10-Leads, Body 3x3mm, Pitch 0.5mm, IPC Medium Density)
footprint MUB10A_L (TSSOP, 10-Leads, Body 3x3mm, Pitch 0.5mm, IPC High Density)
footprint MUB10A_M (TSSOP, 10-Leads, Body 3x3mm, Pitch 0.5mm, IPC Low Density)
pins: 1 REXT, 2 GND (power), 3 VCC (power), 4 VIN (in), 5 ~{HD} (out), 6 HS OUT (out), 7 VS OUT (out), 8 CS OUT (out), 9 BP OUT (out), 10 OE OUT (out)

## LMH1982SQ
designator U?
Multi-Rate Video Clock Generator with Genlock, 32-pin LLP; PartNumber: LMH1982SQ; Manufacturer: National Semiconductor; PackageTopMarking: NS*UZXYTT*L1982SQ; PowerWise: N; CompType: OtherParts; High-Reliability: Y; DatasheetVersion: Jul-2008; PackageVersion: revB, Oct-2009; PackageReference: SQA32A; PackageDescription: LLP, Quad, 5 x 5 x 0.8mm, 32 Lead, 0.5mm Pitch, No Pullback 3.1 x 3.1 Exposed Pad; RoHS: Y; Pin Count: 33; ComponentLink1Description: Manufacturer URL; ComponentLink1URL: http://www.national.com/; ComponentLink2Description: LMH1982 Datasheet; ComponentLink2URL: http://www.national.com/ds/LM/LMH1982.pdf; ComponentLink3Description: LMH1982 Web Page; ComponentLink3URL: http://www.national.com/pf/LM/LMH1982.html; ComponentLink4Description: SQA32A Package Page; ComponentLink4URL: http://www.national.com/packaging/folders/sqa32a.html
footprint SQA32A (QFN, 32-Leads, Body 5x5mm, Pitch 0.5mm, Thermal Pad 3.2x3.2mm, NSC Recommended)
pins: 1 VC_FREERUN (in), 2 GND (power), 3 VDD (power), 4 HREF_A (in), 5 VREF_A (in), 6 REF_SEL (in), 7 HREF_B (in), 8 VREF_B (in), 9 DVDD (power), 10 GND (power), 11 SDA (io), 12 SCL (in), 13 ~{I2C_EN} (in), 14 ~{GENLOCK} (in), 15 ~{RESET} (in), 16 NO_REF (out), 17 NO_LOCK (out), 18 GND (power), 19 ~{HD_CLK} (out), 20 HD_CLK (out), 21 VDD (power), 22 GND (power), 23 ~{SD_CLK} (out), 24 SD_CLK (out), 25 TOF (out), 26 GND (power), 27 VDD (power), 28 VDD (power), 29 VCXO (in), 30 GND (power), 31 LPF (out), 32 VDD (power), 33 DAP (power)

## LMH1982SQ/NOPB
designator U?
Multi-Rate Video Clock Generator with Genlock, 32-pin LLP, Pb-Free; PartNumber: LMH1982SQ/NOPB; Manufacturer: National Semiconductor; PackageTopMarking: NS*UZXYTT*L1982SQ; PowerWise: N; CompType: OtherParts; High-Reliability: Y; DatasheetVersion: Jul-2008; PackageVersion: revB, Oct-2009; PackageReference: SQA32A; PackageDescription: LLP, Quad, 5 x 5 x 0.8mm, 32 Lead, 0.5mm Pitch, No Pullback 3.1 x 3.1 Exposed Pad; RoHS: Y; PinCount: 32; ComponentLink1Description: Manufacturer URL; ComponentLink1URL: http://www.national.com/; ComponentLink2Description: LMH1982 Datasheet; ComponentLink2URL: http://www.national.com/ds/LM/LMH1982.pdf; ComponentLink3Description: LMH1982 Web Page; ComponentLink3URL: http://www.national.com/pf/LM/LMH1982.html; ComponentLink4Description: SQA32A Package Page; ComponentLink4URL: http://www.national.com/packaging/folders/sqa32a.html
footprint SQA32A (QFN, 32-Leads, Body 5x5mm, Pitch 0.5mm, Thermal Pad 3.2x3.2mm, NSC Recommended)
pins: 1 VC_FREERUN (in), 2 GND (power), 3 VDD (power), 4 HREF_A (in), 5 VREF_A (in), 6 REF_SEL (in), 7 HREF_B (in), 8 VREF_B (in), 9 DVDD (power), 10 GND (power), 11 SDA (io), 12 SCL (in), 13 ~{I2C_EN} (in), 14 ~{GENLOCK} (in), 15 ~{RESET} (in), 16 NO_REF (out), 17 NO_LOCK (out), 18 GND (power), 19 ~{HD_CLK} (out), 20 HD_CLK (out), 21 VDD (power), 22 GND (power), 23 ~{SD_CLK} (out), 24 SD_CLK (out), 25 TOF (out), 26 GND (power), 27 VDD (power), 28 VDD (power), 29 VCXO (in), 30 GND (power), 31 LPF (out), 32 VDD (power), 33 DAP (power)

## LMH1982SQE/NOPB
designator U?
Multi-Rate Video Clock Generator with Genlock, 32-pin LLP, Pb-Free; PartNumber: LMH1982SQE/NOPB; Manufacturer: National Semiconductor; PackageTopMarking: NS*UZXYTT*L1982SQ; PowerWise: N; CompType: OtherParts; High-Reliability: Y; DatasheetVersion: Jul-2008; PackageVersion: revB, Oct-2009; PackageReference: SQA32A; PackageDescription: LLP, Quad, 5 x 5 x 0.8mm, 32 Lead, 0.5mm Pitch, No Pullback 3.1 x 3.1 Exposed Pad; RoHS: Y; PinCount: 32; ComponentLink1Description: Manufacturer URL; ComponentLink1URL: http://www.national.com/; ComponentLink2Description: LMH1982 Datasheet; ComponentLink2URL: http://www.national.com/ds/LM/LMH1982.pdf; ComponentLink3Description: LMH1982 Web Page; ComponentLink3URL: http://www.national.com/pf/LM/LMH1982.html; ComponentLink4Description: SQA32A Package Page; ComponentLink4URL: http://www.national.com/packaging/folders/sqa32a.html
footprint SQA32A (QFN, 32-Leads, Body 5x5mm, Pitch 0.5mm, Thermal Pad 3.2x3.2mm, NSC Recommended)
pins: 1 VC_FREERUN (in), 2 GND (power), 3 VDD (power), 4 HREF_A (in), 5 VREF_A (in), 6 REF_SEL (in), 7 HREF_B (in), 8 VREF_B (in), 9 DVDD (power), 10 GND (power), 11 SDA (io), 12 SCL (in), 13 ~{I2C_EN} (in), 14 ~{GENLOCK} (in), 15 ~{RESET} (in), 16 NO_REF (out), 17 NO_LOCK (out), 18 GND (power), 19 ~{HD_CLK} (out), 20 HD_CLK (out), 21 VDD (power), 22 GND (power), 23 ~{SD_CLK} (out), 24 SD_CLK (out), 25 TOF (out), 26 GND (power), 27 VDD (power), 28 VDD (power), 29 VCXO (in), 30 GND (power), 31 LPF (out), 32 VDD (power), 33 DAP (power)

## LMH1982SQX/NOPB
designator U?
Multi-Rate Video Clock Generator with Genlock, 32-pin LLP, Pb-Free; PartNumber: LMH1982SQX/NOPB; Manufacturer: National Semiconductor; PackageTopMarking: NS*UZXYTT*L1982SQ; PowerWise: N; CompType: OtherParts; High-Reliability: Y; DatasheetVersion: Jul-2008; PackageVersion: revB, Oct-2009; PackageReference: SQA32A; PackageDescription: LLP, Quad, 5 x 5 x 0.8mm, 32 Lead, 0.5mm Pitch, No Pullback 3.1 x 3.1 Exposed Pad; RoHS: Y; PinCount: 32; ComponentLink1Description: Manufacturer URL; ComponentLink1URL: http://www.national.com/; ComponentLink2Description: LMH1982 Datasheet; ComponentLink2URL: http://www.national.com/ds/LM/LMH1982.pdf; ComponentLink3Description: LMH1982 Web Page; ComponentLink3URL: http://www.national.com/pf/LM/LMH1982.html; ComponentLink4Description: SQA32A Package Page; ComponentLink4URL: http://www.national.com/packaging/folders/sqa32a.html
footprint SQA32A (QFN, 32-Leads, Body 5x5mm, Pitch 0.5mm, Thermal Pad 3.2x3.2mm, NSC Recommended)
pins: 1 VC_FREERUN (in), 2 GND (power), 3 VDD (power), 4 HREF_A (in), 5 VREF_A (in), 6 REF_SEL (in), 7 HREF_B (in), 8 VREF_B (in), 9 DVDD (power), 10 GND (power), 11 SDA (io), 12 SCL (in), 13 ~{I2C_EN} (in), 14 ~{GENLOCK} (in), 15 ~{RESET} (in), 16 NO_REF (out), 17 NO_LOCK (out), 18 GND (power), 19 ~{HD_CLK} (out), 20 HD_CLK (out), 21 VDD (power), 22 GND (power), 23 ~{SD_CLK} (out), 24 SD_CLK (out), 25 TOF (out), 26 GND (power), 27 VDD (power), 28 VDD (power), 29 VCXO (in), 30 GND (power), 31 LPF (out), 32 VDD (power), 33 DAP (power)

## LMH1983SQ/NOPB
designator U?
3G/HD/SD Video Clock Generator with Audio Clock, 40 pin LLP; PartNumber: LMH1983SQ/NOPB; Manufacturer: National Semiconductor; PackageTopMarking: NS*UZXYTTE#*LMH1983; PowerWise: N; CompType: OtherParts; High-Reliability: Y; DatasheetVersion: Jan-2011; PackageVersion: revB, Mar-2004; PackageReference: SQA40A; PackageDescription: LLP, Plastic, Quad, 6 x 6 x 0.8mm Body, 40 Lead, 0.5mm Pitch, No Pullback; RoHS: Y; PinCount: 40; ComponentLink1Description: Manufacturer URL; ComponentLink1URL: http://www.national.com/; ComponentLink2Description: LMH1983 Datasheet; ComponentLink2URL: http://www.national.com/ds/LM/LMH1983.pdf; ComponentLink3Description: LMH1983 Web Page; ComponentLink3URL: http://www.national.com/pf/LM/LMH1983.html; ComponentLink4Description: SQA40A Package Page; ComponentLink4URL: http://www.national.com/packaging/folders/sqa40a.html
footprint SQA40A (QFN, 40-Leads, Body 6x6mm, Pitch 0.5mm, Thermal Pad 4.7x4.7mm, NSC Recommended)
pins: 1 VDD (power), 2 VDD (power), 3 Hin (in), 4 Vin (in), 5 Fin (in), 6 INIT (in), 7 ADDR (in), 8 SDA (io), 9 SCL (in), 10 VDD (power), 11 NO_LOCK (out), 12 NO_ALIGN (out), 13 NO_REF (out), 14 CLKout4– (out), 15 CLKout4+ (out), 16 VDD (power), 17 Fout4(OSCin) (io), 18 GND (power), 19 VDD (power), 20 VDD (power), 21 GND (power), 22 Fout3 (out), 23 CLKout3+ (out), 24 CLKout3– (out), 25 Cbyp3, 26 Cbyp4, 27 Cbyp2, 28 CLKout2+ (out), 29 CLKout2– (out), 30 Fout2 (out), 31 VDD (power), 32 VDD (power), 33 XOin- (in), 34 XOin+ (in), 35 CLKout1– (out), 36 CLKout1+ (out), 37 Fout1 (out), 38 VDD (power), 39 GND (power), 40 VC_LPF (out), 41 DAP (power)

## LMH1983SQE/NOPB
designator U?
3G/HD/SD Video Clock Generator with Audio Clock, 40 pin LLP; PartNumber: LMH1983SQE/NOPB; Manufacturer: National Semiconductor; PackageTopMarking: NS*UZXYTTE#*LMH1983; PowerWise: N; CompType: OtherParts; High-Reliability: Y; DatasheetVersion: Jan-2011; PackageVersion: revB, Mar-2004; PackageReference: SQA40A; PackageDescription: LLP, Plastic, Quad, 6 x 6 x 0.8mm Body, 40 Lead, 0.5mm Pitch, No Pullback; RoHS: Y; PinCount: 40; ComponentLink1Description: Manufacturer URL; ComponentLink1URL: http://www.national.com/; ComponentLink2Description: LMH1983 Datasheet; ComponentLink2URL: http://www.national.com/ds/LM/LMH1983.pdf; ComponentLink3Description: LMH1983 Web Page; ComponentLink3URL: http://www.national.com/pf/LM/LMH1983.html; ComponentLink4Description: SQA40A Package Page; ComponentLink4URL: http://www.national.com/packaging/folders/sqa40a.html
footprint SQA40A (QFN, 40-Leads, Body 6x6mm, Pitch 0.5mm, Thermal Pad 4.7x4.7mm, NSC Recommended)
pins: 1 VDD (power), 2 VDD (power), 3 Hin (in), 4 Vin (in), 5 Fin (in), 6 INIT (in), 7 ADDR (in), 8 SDA (io), 9 SCL (in), 10 VDD (power), 11 NO_LOCK (out), 12 NO_ALIGN (out), 13 NO_REF (out), 14 CLKout4– (out), 15 CLKout4+ (out), 16 VDD (power), 17 Fout4(OSCin) (io), 18 GND (power), 19 VDD (power), 20 VDD (power), 21 GND (power), 22 Fout3 (out), 23 CLKout3+ (out), 24 CLKout3– (out), 25 Cbyp3, 26 Cbyp4, 27 Cbyp2, 28 CLKout2+ (out), 29 CLKout2– (out), 30 Fout2 (out), 31 VDD (power), 32 VDD (power), 33 XOin- (in), 34 XOin+ (in), 35 CLKout1– (out), 36 CLKout1+ (out), 37 Fout1 (out), 38 VDD (power), 39 GND (power), 40 VC_LPF (out), 41 DAP (power)

## LMH1983SQX/NOPB
designator U?
3G/HD/SD Video Clock Generator with Audio Clock, 40-pin LLP, 2500 Reel; PartNumber: LMH1983SQX/NOPB; Manufacturer: National Semiconductor; PackageTopMarking: NS*UZXYTTE#*LMH1983; PowerWise: N; CompType: OtherParts; High-Reliability: Y; DatasheetVersion: Jan-2011; PackageVersion: revB, Mar-2004; PackageReference: SQA40A; PackageDescription: LLP, Plastic, Quad, 6 x 6 x 0.8mm Body, 40 Lead, 0.5mm Pitch, No Pullback; RoHS: Y; PinCount: 40; ComponentLink1Description: Manufacturer URL; ComponentLink1URL: http://www.national.com/; ComponentLink2Description: LMH1983 Datasheet; ComponentLink2URL: http://www.national.com/ds/LM/LMH1983.pdf; ComponentLink3Description: LMH1983 Web Page; ComponentLink3URL: http://www.national.com/pf/LM/LMH1983.html; ComponentLink4Description: SQA40A Package Page; ComponentLink4URL: http://www.national.com/packaging/folders/sqa40a.html
footprint SQA40A (QFN, 40-Leads, Body 6x6mm, Pitch 0.5mm, Thermal Pad 4.7x4.7mm, NSC Recommended)
pins: 1 VDD (power), 2 VDD (power), 3 Hin (in), 4 Vin (in), 5 Fin (in), 6 INIT (in), 7 ADDR (in), 8 SDA (io), 9 SCL (in), 10 VDD (power), 11 NO_LOCK (out), 12 NO_ALIGN (out), 13 NO_REF (out), 14 CLKout4– (out), 15 CLKout4+ (out), 16 VDD (power), 17 Fout4(OSCin) (io), 18 GND (power), 19 VDD (power), 20 VDD (power), 21 GND (power), 22 Fout3 (out), 23 CLKout3+ (out), 24 CLKout3– (out), 25 Cbyp3, 26 Cbyp4, 27 Cbyp2, 28 CLKout2+ (out), 29 CLKout2– (out), 30 Fout2 (out), 31 VDD (power), 32 VDD (power), 33 XOin- (in), 34 XOin+ (in), 35 CLKout1– (out), 36 CLKout1+ (out), 37 Fout1 (out), 38 VDD (power), 39 GND (power), 40 VC_LPF (out), 41 DAP (power)

## LMH6525SP
designator U?
Four-Channel Laser Diode Driver with Dual Output, 29-pin LLP; PartNumber: LMH6525SP; Manufacturer: National Semiconductor; PackageTopMarking: THHD*XTT; PowerWise: N; CompType: OtherParts; High-Reliability: Y; DatasheetVersion: Jun-2005; PackageVersion: revA, Aug-2003; PackageReference: SPA28A; PackageDescription: LLP, Plastic, Quad, 5 x 5 x 0.6mm Body, 28 Lead, 0.5mm Pitch, No Pullback; RoHS: Y; PinCount: 28; Code_JEDEC: MO-220-WHHD-3; ComponentLink1Description: Manufacturer URL; ComponentLink1URL: http://www.national.com/; ComponentLink2Description: LMH6525 Datasheet; ComponentLink2URL: http://www.national.com/ds/LM/LMH6525.pdf; ComponentLink3Description: LMH6525 Web Page; ComponentLink3URL: http://www.national.com/pf/LM/LMH6525.html; ComponentLink4Description: SPA28A Package Page; ComponentLink4URL: http://www.national.com/packaging/folders/spa28a.html
footprint SPA28A (QFN, 28-Leads, Body 5x5mm, Pitch 0.5mm, Thermal Pad 3.7x3.7mm, NSC Recommended)
pins: 1 IOUTA (out), 2 ENOSC (in), 3 ENOSCB (in), 4 ENR (in), 5 ENABLE (in), 6 VDDA (power), 7 GNDA (power), 8 IR (in), 9 I2 (in), 10 I3 (in), 11 I4 (in), 12 RFA, 13 RFB, 14 RAA, 15 RAB, 16 SELB (in), 17 EN2B (in), 18 EN2 (in), 19 EN3B (in), 20 EN3 (in), 21 EN4B (in), 22 EN4 (in), 23 NC, 24 VDD (power), 25 VDD (power), 26 VDD (power), 27 IOUTB (out), 28 GNDB (power), 29 DAP (power)

## LMH6525SP/NOPB
designator U?
Four-Channel Laser Diode Driver with Dual Output, 28-pin LLP, Pb-Free; PartNumber: LMH6525SP/NOPB; Manufacturer: National Semiconductor; PackageTopMarking: NS*UZXYTT*L6525SP; PowerWise: N; CompType: OtherParts; High-Reliability: Y; DatasheetVersion: Jun-2005; PackageVersion: revA, Aug-2003; PackageReference: SPA28A; PackageDescription: LLP, Plastic, Quad, 5 x 5 x 0.6mm Body, 28 Lead, 0.5mm Pitch, No Pullback; RoHS: Y; PinCount: 28; Code_JEDEC: MO-220-WHHD-3; ComponentLink1Description: Manufacturer URL; ComponentLink1URL: http://www.national.com/; ComponentLink2Description: LMH6525 Datasheet; ComponentLink2URL: http://www.national.com/ds/LM/LMH6525.pdf; ComponentLink3Description: LMH6525 Web Page; ComponentLink3URL: http://www.national.com/pf/LM/LMH6525.html; ComponentLink4Description: SPA28A Package Page; ComponentLink4URL: http://www.national.com/packaging/folders/spa28a.html
footprint SPA28A (QFN, 28-Leads, Body 5x5mm, Pitch 0.5mm, Thermal Pad 3.7x3.7mm, NSC Recommended)
pins: 1 IOUTA (out), 2 ENOSC (in), 3 ENOSCB (in), 4 ENR (in), 5 ENABLE (in), 6 VDDA (power), 7 GNDA (power), 8 IR (in), 9 I2 (in), 10 I3 (in), 11 I4 (in), 12 RFA, 13 RFB, 14 RAA, 15 RAB, 16 SELB (in), 17 EN2B (in), 18 EN2 (in), 19 EN3B (in), 20 EN3 (in), 21 EN4B (in), 22 EN4 (in), 23 NC, 24 VDD (power), 25 VDD (power), 26 VDD (power), 27 IOUTB (out), 28 GNDB (power), 29 DAP (power)

## LMH6525SPX/NOPB
designator U?
Four-Channel Laser Diode Driver with Dual Output, 28-pin LLP, Pb-Free; PartNumber: LMH6525SPX/NOPB; Manufacturer: National Semiconductor; PackageTopMarking: NS*UZXYTT*L6525SP; PowerWise: N; CompType: OtherParts; High-Reliability: Y; DatasheetVersion: Jun-2005; PackageVersion: revA, Aug-2003; PackageReference: SPA28A; PackageDescription: LLP, Plastic, Quad, 5 x 5 x 0.6mm Body, 28 Lead, 0.5mm Pitch, No Pullback; RoHS: Y; PinCount: 28; Code_JEDEC: MO-220-WHHD-3; ComponentLink1Description: Manufacturer URL; ComponentLink1URL: http://www.national.com/; ComponentLink2Description: LMH6525 Datasheet; ComponentLink2URL: http://www.national.com/ds/LM/LMH6525.pdf; ComponentLink3Description: LMH6525 Web Page; ComponentLink3URL: http://www.national.com/pf/LM/LMH6525.html; ComponentLink4Description: SPA28A Package Page; ComponentLink4URL: http://www.national.com/packaging/folders/spa28a.html
footprint SPA28A (QFN, 28-Leads, Body 5x5mm, Pitch 0.5mm, Thermal Pad 3.7x3.7mm, NSC Recommended)
pins: 1 IOUTA (out), 2 ENOSC (in), 3 ENOSCB (in), 4 ENR (in), 5 ENABLE (in), 6 VDDA (power), 7 GNDA (power), 8 IR (in), 9 I2 (in), 10 I3 (in), 11 I4 (in), 12 RFA, 13 RFB, 14 RAA, 15 RAB, 16 SELB (in), 17 EN2B (in), 18 EN2 (in), 19 EN3B (in), 20 EN3 (in), 21 EN4B (in), 22 EN4 (in), 23 NC, 24 VDD (power), 25 VDD (power), 26 VDD (power), 27 IOUTB (out), 28 GNDB (power), 29 DAP (power)

## LMH6526SP
designator U?
Four-Channel Laser Diode Driver with Dual Output, 29-pin LLP; PartNumber: LMH6526SP; Manufacturer: National Semiconductor; PackageTopMarking: THHD*XTT; PowerWise: N; CompType: OtherParts; High-Reliability: Y; DatasheetVersion: Jun-2005; PackageVersion: revA, Aug-2003; PackageReference: SPA28A; PackageDescription: LLP, Plastic, Quad, 5 x 5 x 0.6mm Body, 28 Lead, 0.5mm Pitch, No Pullback; RoHS: Y; PinCount: 28; Code_JEDEC: MO-220-WHHD-3; ComponentLink1Description: Manufacturer URL; ComponentLink1URL: http://www.national.com/; ComponentLink2Description: LMH6526 Datasheet; ComponentLink2URL: http://www.national.com/ds/LM/LMH6526.pdf; ComponentLink3Description: LMH6526 Web Page; ComponentLink3URL: http://www.national.com/pf/LM/LMH6526.html; ComponentLink4Description: SPA28A Package Page; ComponentLink4URL: http://www.national.com/packaging/folders/spa28a.html
footprint SPA28A (QFN, 28-Leads, Body 5x5mm, Pitch 0.5mm, Thermal Pad 3.7x3.7mm, NSC Recommended)
pins: 1 IOUTA (out), 2 ENOSC (in), 3 NC, 4 ENR (in), 5 ENABLE (in), 6 VDDA (power), 7 GNDA (power), 8 IR (in), 9 I2 (in), 10 I3 (in), 11 I4 (in), 12 RFA, 13 RFB, 14 RAA, 15 RAB, 16 SELA (in), 17 EN2B (in), 18 EN2 (in), 19 EN3B (in), 20 EN3 (in), 21 EN4B (in), 22 EN4 (in), 23 NC, 24 VDD (power), 25 VDD (power), 26 VDD (power), 27 IOUTB (out), 28 GNDB (power), 29 DAP (power)

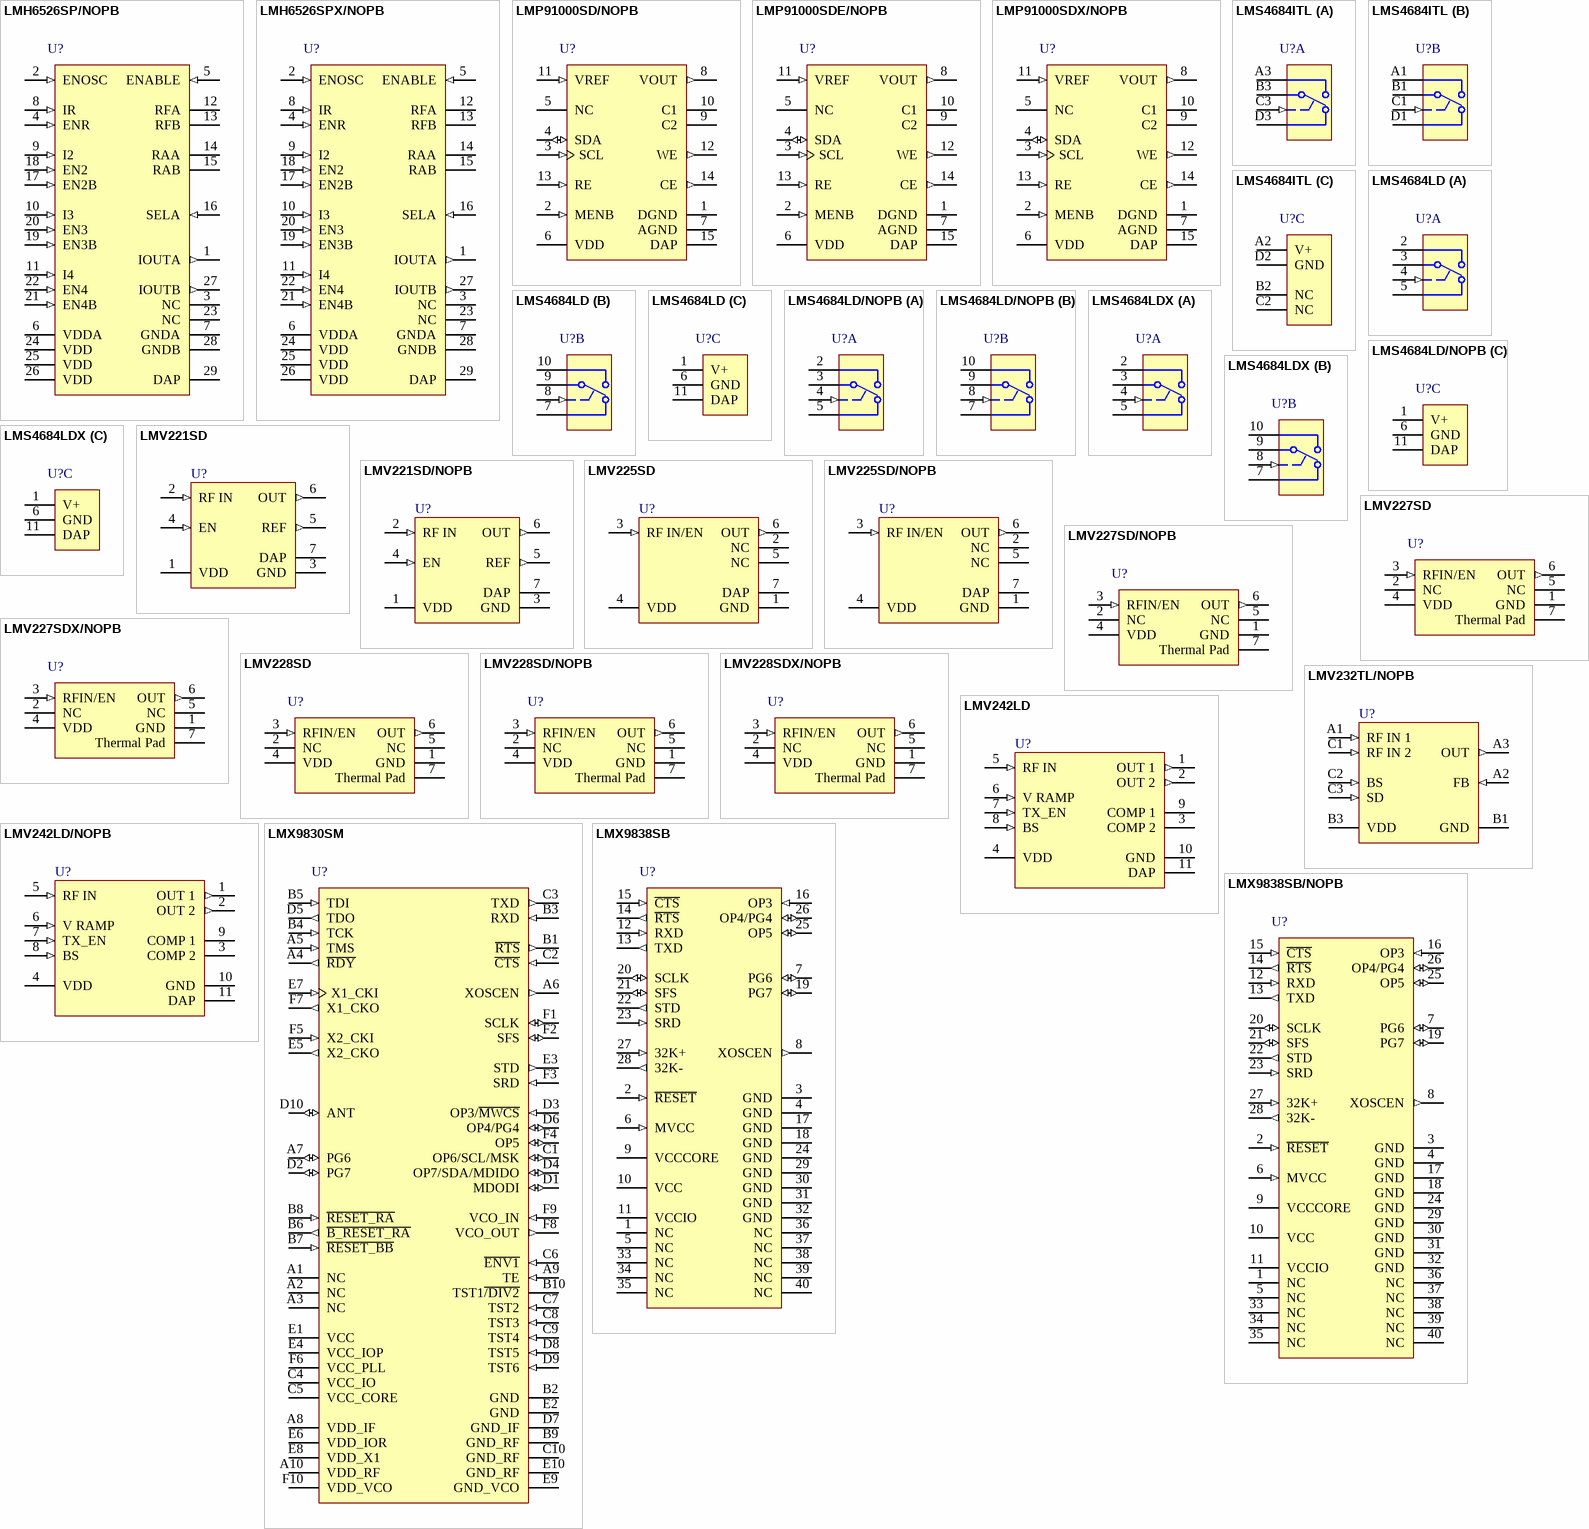
[diagram p12: symbols LMH6526SP/NOPB to LMX9838SB/NOPB]